# Altium schematic symbol library Diodes.SchLib: 4 symbols
Pins are listed as number, name and electrical type; pins without a type are passive.

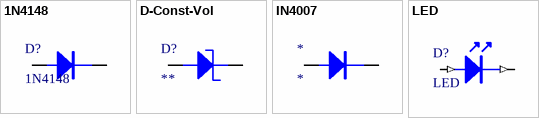
[diagram p0: symbols 1N4148 to LED]

## 1N4148
designator D?
footprint LC-SOD-323
pins: 1 Anode, 2 Cathode

## D-Const-Vol
designator D?
value: *
footprint LC-SOD-323
pins: 1 Anode, 2 Cathode

## IN4007
designator *
footprint DO-214AA
pins: A Anode, C Cathode

## LED
designator D?
footprint LC-0603_LED_S3
footprint LC-0805_LED_S3
pins: A Anode (in), K Cathode (out)